# EAGLE library part LSM6DS33TR (library LSM6DS33TR)
Integrated Circuit, Misc s 3d Accelerometer And Gyro Lsm6ds3
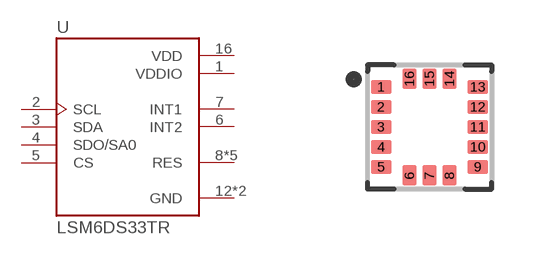
[diagram p0: symbol with the pads of PQFN50P300X300X86-16N; footprint PQFN50P300X300X86-16N]

Designator prefix U

## LSM6DS33TR (AVAILABILITY: Unavailable; DESCRIPTION: Integrated Circuit, Misc s 3d Accelerometer And Gyro Lsm6ds3; MF: STMicroelectronics; MP: LSM6DS33TR; PACKAGE: LGA-16 STMicroelectronics; PRICE: None)  [PQFN50P300X300X86-16N]
1  VDDIO  pwr
2  SCL
3  SDA
4  SDO/SA0
5  CS
6  INT2  out
7  INT1  out
8  RES  pas
9  RES  pas
10  RES  pas
11  RES  pas
12  GND  pwr
13  GND  pwr
15  RES  pas
16  VDD  pwr

## Footprint PQFN50P300X300X86-16N (pad centres in mm)
smd 0.51 x 0.35: 1 -1.21,1; 2 -1.21,0.5; 3 -1.21,0; 4 -1.21,-0.5; 5 -1.21,-1; 9 1.21,-1; 10 1.21,-0.5; 11 1.21,0; 12 1.21,0.5; 13 1.21,1
smd 0.35 x 0.51: 6 -0.5,-1.21; 7 0,-1.21; 8 0.5,-1.21; 14 0.5,1.21; 15 0,1.21; 16 -0.5,1.21